# Altium schematic symbol library SCH - DIODES - DIODE.SCHLIB: 1 symbol
Pins are listed as number, name and electrical type; pins without a type are passive.

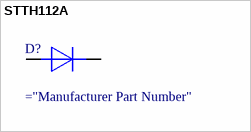
[diagram p0: symbol STTH112A]

## STTH112A
designator D?
Diode, 1200V, 1A, SMA
pins: 1 A, 2 K